# Altium footprint library PCB - POWER INDUCTORS - WURTH WE-GFH 4532.PcbLib: 1 footprints
Each footprint in its own frame and in the unit in brackets; x right, y up, seen from the top. Pads: shape width x height; smd on the part's side, far side on the other; paste and mask are expansions set on the pad; w line width, h text height; cw(c..) or ccw(c..) is an arc to the next point about the centre after c.
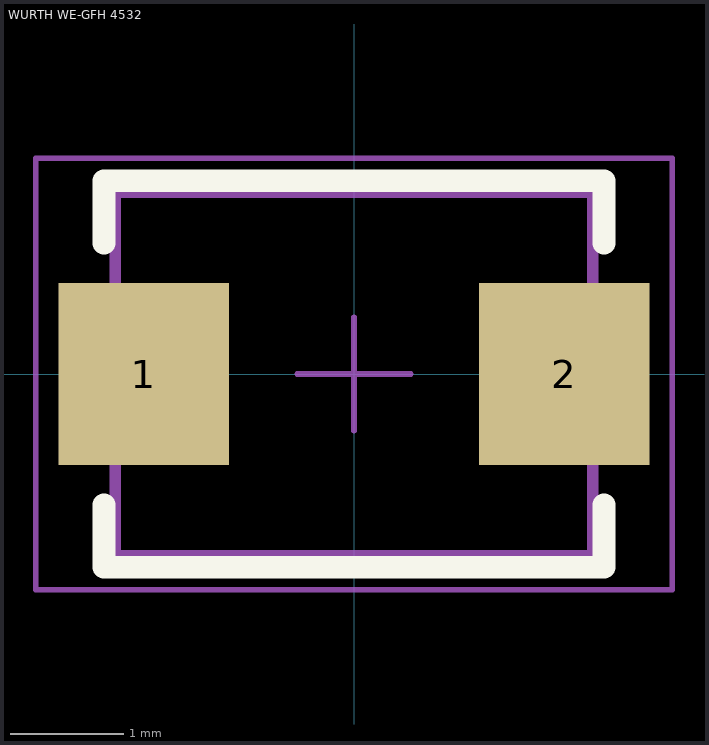
[diagram p0: the footprint, top view; thin cyan lines are the x and y axes]

## WURTH WE-GFH 4532 [mm] "SMT High Frequency Inductor, body 4.5x3.2mm"
height 3.4
pads (2):
  rect 1.5x1.6 smd: 1(-1.85,0) 2(1.85,0)
Top Overlay:
  lines w0.2: -2.2,-1.15 -2.2,-1.7 2.2,-1.7 2.2,-1.15 ; -2.2,1.15 -2.2,1.7 2.2,1.7 2.2,1.15
Top Assembly:
  lines w0.05: -0.5,0 0.5,0 ; 0,-0.5 0,0.5
  lines w0.1: -2.1,-1.6 -2.1,1.6 2.1,1.6 2.1,-1.6 -2.1,-1.6
Top Component Outline:
  lines w0.1: -2.1,-1.6 2.1,-1.6 2.1,1.6 -2.1,1.6 -2.1,-1.6
Top Courtyard:
  lines w0.05: -2.8,-1.9 -2.8,1.9 2.8,1.9 2.8,-1.9 -2.8,-1.9
3D body "IndGFH_4532.stp": height 3.19, standoff -0.01, extent -2.25,-1.6 2.25,1.6